# EAGLE library part AL2-4EX-A2 (library e-sps)
AL2 4EX A2 220-240V AC-Eingang MITSUBISHI Alpha_Installationsanweisung.pdf
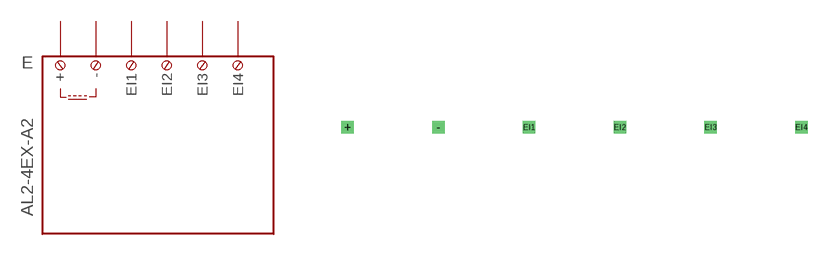
[diagram p15: symbol with the pads of AL2-4EX-A2; footprint AL2-4EX-A2]

Designator prefix E

## AL2-4EX-A2  [AL2-4EX-A2]
+  +  pas
-  -  pas
EI1  EI1  pas
EI2  EI2  pas
EI3  EI3  pas
EI4  EI4  pas

## Footprint AL2-4EX-A2 (pad centres in mm)
AL2 4EX A2
drill 0.2 pad 0.6 square: + -12.7,17.78; - -7.62,17.78; EI1 -2.54,17.78; EI2 2.54,17.78; EI3 7.62,17.78; EI4 12.7,17.78